# Altium integrated library teensy.IntLib: 1 symbol
Pins are listed as number, name and electrical type; pins without a type are passive.

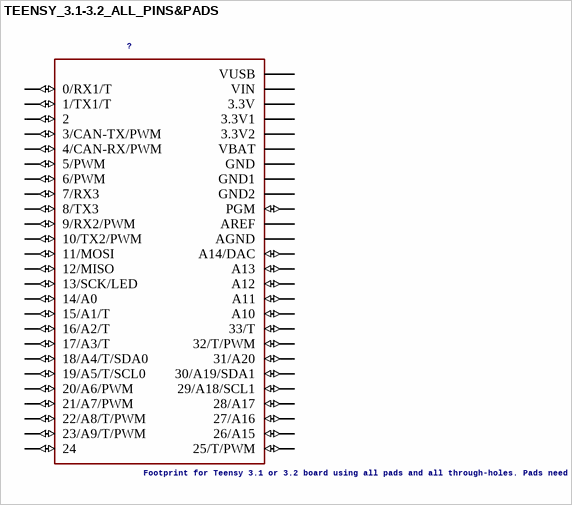
[diagram p0: symbol TEENSY_3.1-3.2_ALL_PINS&PADS]

## TEENSY_3.1-3.2_ALL_PINS&PADS
designator ?, comment Footprint for Teensy 3.1 or 3.2 board using all pads and all through-holes. Pads need a 2x7 0.1" SMD header.
GateName_1: G$1; SymbolName_1: TEENSY_3.1-3.2_ALL_PINS_AND_PADS; DeviceSetName: TEENSY_3.1-3.2_ALL_PINS&PADS; LibraryName: Teensy_3_and_LC_Series_Boards_v1.4; Package: TEENSY_3.0-3.2_ALL_PINS_&_PADS
footprint TEENSY_3.0-3.2_ALL_PINS_&_PADS
pins: 0 0/RX1/T (io), 1 1/TX1/T (io), 2 (io), 3 3/CAN-TX/PWM (io), 3.3V1  3.3V1 (power), 3.3V2 (power), 3.3V  3.3V (power), 4 4/CAN-RX/PWM (io), 5 5/PWM (io), 6 6/PWM (io), 7 7/RX3 (io), 8 8/TX3 (io), 9 9/RX2/PWM (io), 10 10/TX2/PWM (io), 11 11/MOSI (io), 12 12/MISO (io), 13 13/SCK/LED (io), 14/A0 (io), 15/A1 15/A1/T (io), 16/A2 16/A2/T (io), 17/A3 17/A3/T (io), 18/A4 18/A4/T/SDA0 (io), 19/A5 19/A5/T/SCL0 (io), 20/A6 20/A6/PWM (io), 21/A7 21/A7/PWM (io), 22/A8 22/A8/T/PWM (io), 23/A9 23/A9/T/PWM (io), 24 (io), 25 25/T/PWM (io), 26 26/A15 (io), 27 27/A16 (io), 28 28/A17 (io), 29 29/A18/SCL1 (io), 30 30/A19/SDA1 (io), 31 31/A20 (io), 32 32/T/PWM (io), 33 33/T (io), A10 (io), A11 (io), A12 (io), A13 (io), AGND (power), AREF (power), GND (power), GND1 (power), GND2 (power), PGM (io), RESET/DAC A14/DAC (io), VBAT (power), VIN (power), VUSB (power)